# EAGLE library part LOADCELLAMP (library Smartcrutches)
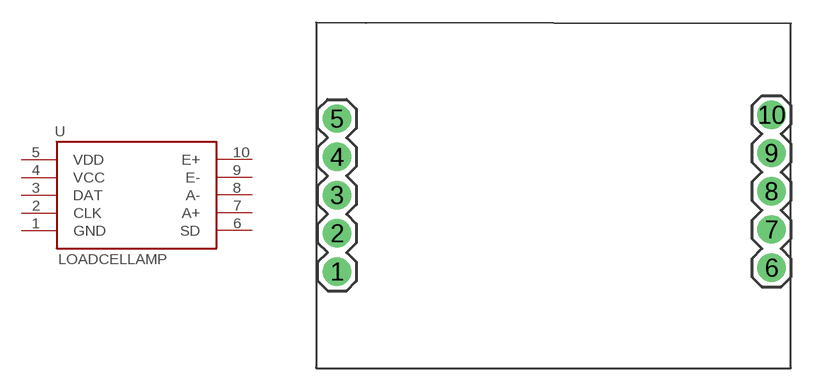
[diagram p8: symbol with the pads of LOADCELLAMP2; footprint LOADCELLAMP2]

Designator prefix -

## LOADCELLAMP  [LOADCELLAMP2]
1  GND
2  CLK
3  DAT
4  VCC
5  VDD
6  SD
7  A+
8  A-
9  E-
10  E+

## Footprint LOADCELLAMP2 (pad centres in mm)
drill 1.016 pad 1.88: 1 -14.605,-5.08; 2 -14.605,-2.54; 3 -14.605,0; 4 -14.605,2.54; 5 -14.605,5.08; 6 14.213,-4.826; 7 14.213,-2.286; 8 14.213,0.254; 9 14.213,2.794; 10 14.213,5.334